# Altium footprint library TDII_Lib.PcbLib: 53 footprints (part 4 of 4)
Each footprint in its own frame and in the unit in brackets; x right, y up, seen from the top. Pads: shape width x height; smd on the part's side, far side on the other; paste and mask are expansions set on the pad; w line width, h text height; cw(c..) or ccw(c..) is an arc to the next point about the centre after c.
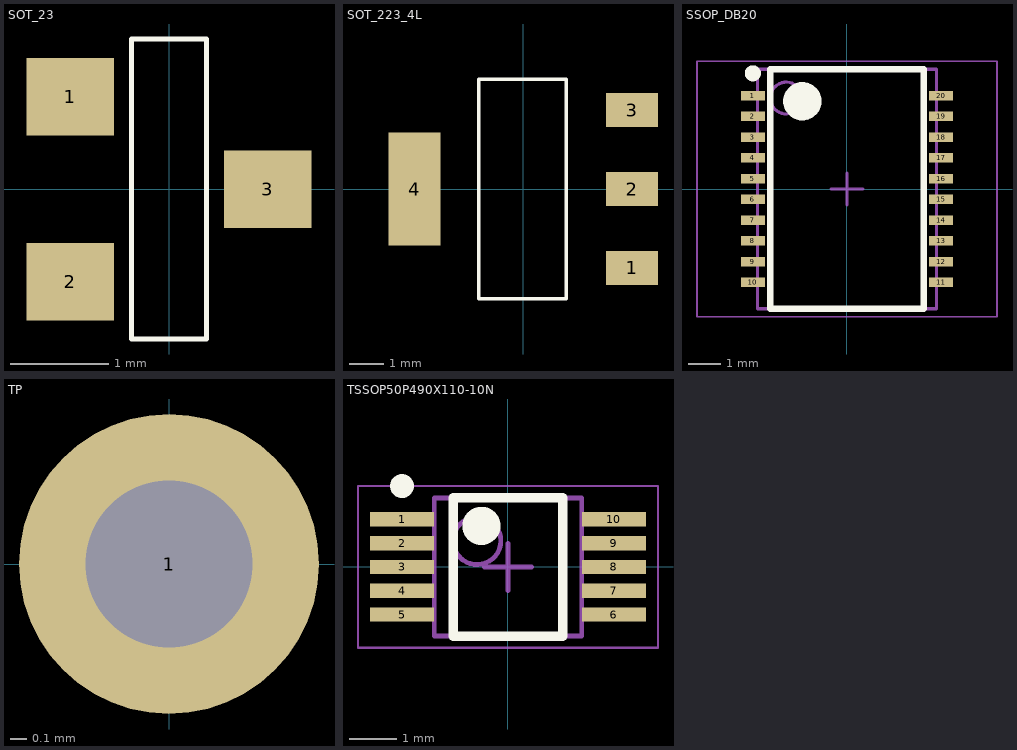
[diagram p3: the footprints below, top view; thin cyan lines are the x and y axes]

## SOT_23 [mil]
pads (3):
  rect 35x31 smd: 1(-39.5,37) 2(-39.5,-37) 3(39.5,0)
Top Overlay:
  lines w2: -15,-60 -15,60 15,60 15,-60 -15,-60

## SOT_223_4L [mil]
pads (4):
  rect 59x39 smd: 1(124,-90) 2(124,0) 3(124,90)
  rect 59x129 smd: 4(-124,0)
Top Overlay:
  lines w4: -51,-125 -51,125 49,125 49,-125 -51,-125

## SSOP_DB20 [mm] "PCM1802 Single-Ended Analog-Input 24-Bit"
height 2
pads (20):
  rect 0.75x0.3 smd: 1(-2.95,2.925) 2(-2.95,2.275) 3(-2.95,1.625) 4(-2.95,0.975) 5(-2.95,0.325) 6(-2.95,-0.325) 7(-2.95,-0.975) 8(-2.95,-1.625) 9(-2.95,-2.275) 10(-2.95,-2.925) 11(2.95,-2.925) 12(2.95,-2.275) 13(2.95,-1.625) 14(2.95,-0.975) 15(2.95,-0.325) 16(2.95,0.325) 17(2.95,0.975) 18(2.95,1.625) 19(2.95,2.275) 20(2.95,2.925)
Top Overlay:
  circle w0.25: c-2.95,3.625 r0.125
  circle w0.6: c-1.4,2.75 r0.3
  lines w0.2: -2.4,-3.75 -2.4,3.75 2.4,3.75 2.4,-3.75 -2.4,-3.75
Mechanical 13:
  circle w0.1: c-1.9,2.85 r0.5
  lines w0.1: -2.8,-3.75 -2.8,3.75 2.8,3.75 2.8,-3.75 -2.8,-3.75
Mechanical 15:
  lines w0.05: -4.7,-4 -4.7,4 4.7,4 4.7,-4 -4.7,-4
  lines w0.1: -0.5,0 0.5,0 ; 0,-0.5 0,0.5
3D body: height 2, standoff 0.05, extent -2.8,-3.75 2.8,3.75

## TP [mm]
pads (1):
  round 1.8 hole 1: 1(0,0)

## TSSOP50P490X110-10N [mm] "TSSOP, 10-Leads, Body 3.00x3.00mm, Pitch 0.50mm, IPC Medium Density"
height 1.1
pads (10):
  rect 1.35x0.3 smd: 1(-2.225,1) 2(-2.225,0.5) 3(-2.225,0) 4(-2.225,-0.5) 5(-2.225,-1) 6(2.225,-1) 7(2.225,-0.5) 8(2.225,0) 9(2.225,0.5) 10(2.225,1)
Top Overlay:
  circle w0.6: c-0.559,0.864 r0.1
  circle w0.25: c-2.225,1.7 r0.125
  lines w0.2: -1.15,-1.45 1.15,-1.45 1.15,1.45 -1.15,1.45 -1.15,-1.45
Mechanical 13:
  circle w0.1: c-0.65,0.55 r0.5
  lines w0.1: -1.55,-1.45 1.55,-1.45 1.55,1.45 -1.55,1.45 -1.55,-1.45
Mechanical 15:
  lines w0.05: -3.15,-1.7 3.15,-1.7 3.15,1.7 -3.15,1.7 -3.15,-1.7
  lines w0.1: -0.5,0 0.5,0 ; 0,-0.5 0,0.5
3D body: height 1.1, standoff 0.25, extent -1.55,-1.45 1.55,1.45